# EAGLE library part ICE5LP2K-SG48ITR (library ICE5LP2K-SG48ITR)
FPGA iCE40 Ultra Family 2048 Cells 40nm Technology 1.2V 48-Pin T/R Source: Datasheet <http://www.latticesemi.com/~/media/LatticeSemi/Documents/DataSheets/iCE/iCE40UltraFamilyDataSheet.pdf>
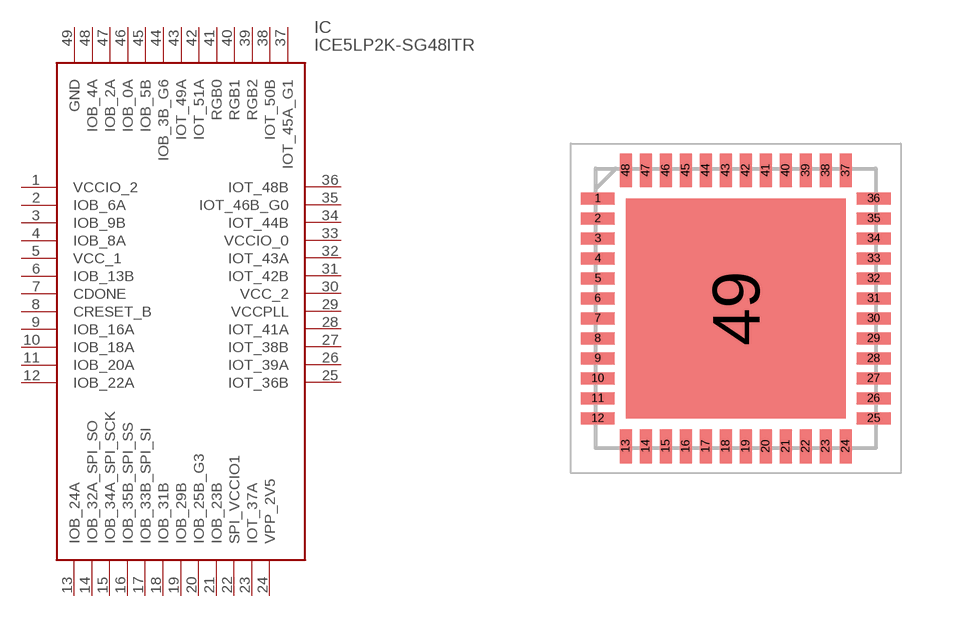
[diagram p0: symbol with the pads of QFN50P700X700X100-49N; footprint QFN50P700X700X100-49N]

Designator prefix IC

## ICE5LP2K-SG48ITR (Arrow_Part_Number: ICE5LP2K-SG48ITR; Arrow_Price-Stock: https://www.arrow.com/en/products/ice5lp2k-sg48itr/lattice-semiconductor; Description: FPGA iCE40 Ultra Family 2048 Cells 40nm Technology 1.2V 48-Pin T/R; Height: 1mm; Manufacturer_Name: Lattice Semiconductor; Manufacturer_Part_Number: ICE5LP2K-SG48ITR; Mouser_Part_Number: 842-ICE5LP2K-SG48ITR; Mouser_Price-Stock: https://www.mouser.co.uk/ProductDetail/Lattice/ICE5LP2K-SG48ITR?qs=ZwKJWZfDtNgAWzMHJRGDug%3D%3D)  [QFN50P700X700X100-49N]
1  VCCIO_2
2  IOB_6A
3  IOB_9B
4  IOB_8A
5  VCC_1
6  IOB_13B
7  CDONE
8  CRESET_B
9  IOB_16A
10  IOB_18A
11  IOB_20A
12  IOB_22A
13  IOB_24A
14  IOB_32A_SPI_SO
15  IOB_34A_SPI_SCK
16  IOB_35B_SPI_SS
17  IOB_33B_SPI_SI
18  IOB_31B
19  IOB_29B
20  IOB_25B_G3
21  IOB_23B
22  SPI_VCCIO1
23  IOT_37A
24  VPP_2V5
25  IOT_36B
26  IOT_39A
27  IOT_38B
28  IOT_41A
29  VCCPLL
30  VCC_2
31  IOT_42B
32  IOT_43A
33  VCCIO_0
34  IOT_44B
35  IOT_46B_G0
36  IOT_48B
37  IOT_45A_G1
38  IOT_50B
39  RGB2
40  RGB1
41  RGB0
42  IOT_51A
43  IOT_49A
44  IOB_3B_G6
45  IOB_5B
46  IOB_0A
47  IOB_2A
48  IOB_4A
49  GND

## Footprint QFN50P700X700X100-49N (pad centres in mm)
48-Pin QFN Package Option 1: L-ASC10, iCE40 LP, iCE40 UltraPlus, MachXO2
smd 0.85 x 0.3: 1 -3.45,2.75; 2 -3.45,2.25; 3 -3.45,1.75; 4 -3.45,1.25; 5 -3.45,0.75; 6 -3.45,0.25; 7 -3.45,-0.25; 8 -3.45,-0.75; 9 -3.45,-1.25; 10 -3.45,-1.75; 11 -3.45,-2.25; 12 -3.45,-2.75; 25 3.45,-2.75; 26 3.45,-2.25; 27 3.45,-1.75; 28 3.45,-1.25; 29 3.45,-0.75; 30 3.45,-0.25; 31 3.45,0.25; 32 3.45,0.75; 33 3.45,1.25; 34 3.45,1.75; 35 3.45,2.25; 36 3.45,2.75
smd 0.3 x 0.85: 13 -2.75,-3.45; 14 -2.25,-3.45; 15 -1.75,-3.45; 16 -1.25,-3.45; 17 -0.75,-3.45; 18 -0.25,-3.45; 19 0.25,-3.45; 20 0.75,-3.45; 21 1.25,-3.45; 22 1.75,-3.45; 23 2.25,-3.45; 24 2.75,-3.45; 37 2.75,3.45; 38 2.25,3.45; 39 1.75,3.45; 40 1.25,3.45; 41 0.75,3.45; 42 0.25,3.45; 43 -0.25,3.45; 44 -0.75,3.45; 45 -1.25,3.45; 46 -1.75,3.45; 47 -2.25,3.45; 48 -2.75,3.45
smd 5.5 x 5.5: 49 0,0